# Altium footprint library CONN_TBLOCK_5P08.PcbLib: 72 footprints (part 1 of 5)
Each footprint in its own frame and in the unit in brackets; x right, y up, seen from the top. Pads: shape width x height; smd on the part's side, far side on the other; paste and mask are expansions set on the pad; w line width, h text height; cw(c..) or ccw(c..) is an arc to the next point about the centre after c.
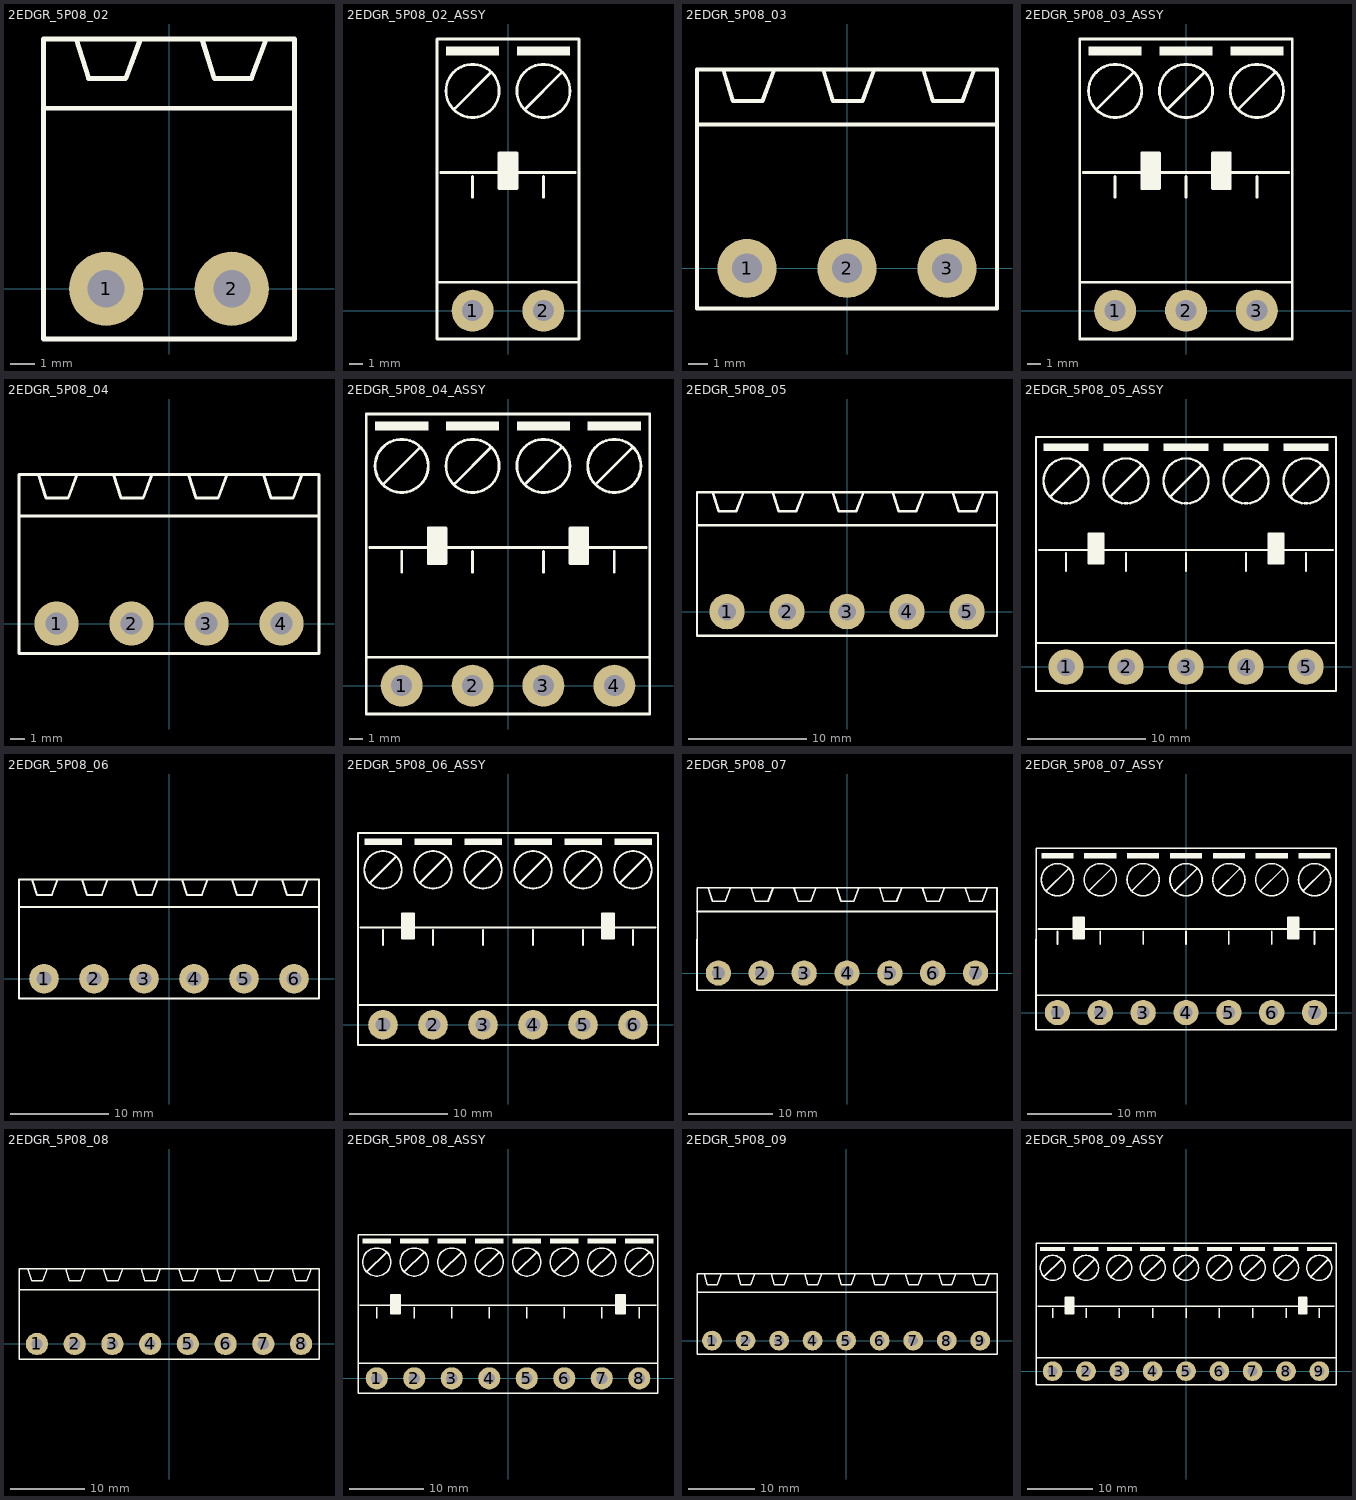
[diagram p0: the footprints below, top view; thin cyan lines are the x and y axes]

## 2EDGR_5P08_02 [mm] "Terminal Plug, pitch 5.08mm, PHOENIX MSTB 2,5/ x-G-5,08"
pads (2):
  round 3 hole 1.5: 1(-2.54,0) 2(2.54,0)
Top Overlay:
  lines w0.2: -5.08,7.3 5.08,7.3 ; -3.75,10.1 -3.25,8.5 -1.75,8.5 -1.15,10.1 ; 1.33,10.1 1.83,8.5 3.33,8.5 3.93,10.1 ; -5.08,-2.032 5.08,-2.032 5.08,10.1 -5.08,10.1 -5.08,-2.032
3D body "PHOENIX_MSTB2.stp": height 8.7, standoff -3.4, extent -5,-2 5,10

## 2EDGR_5P08_02_ASSY [mm] "Terminal Plug, pitch 5.08mm, PHOENIX MSTB 2,5/ x-G-5,08"
pads (2):
  round 3 hole 1.5: 1(-2.54,0) 2(2.54,0)
Top Overlay:
  circle w0.2: c-2.54,15.748 r1.905
  circle w0.2: c2.54,15.748 r1.905
  region: -0.635,18.923 -4.445,18.923 -4.445,18.288 -0.635,18.288
  region: 4.445,18.923 0.635,18.923 0.635,18.288 4.445,18.288
  region: 0.635,11.303 -0.635,11.303 -0.635,8.763 0.635,8.763
  lines w0.2: -5.08,2.032 5.08,2.032 ; -4.826,9.906 4.826,9.906 ; -3.81,14.478 -1.27,17.018 ; -2.54,8.128 -2.54,9.618 ; 1.27,14.478 3.81,17.018 ; 2.54,8.128 2.54,9.618 ; -5.08,-2.032 -5.08,19.468 5.08,19.468 5.08,-2.032 -5.08,-2.032 ; -0.635,8.763 -0.635,11.303 0.635,11.303 0.635,8.763 -0.635,8.763
3D body "PHOENIX_MSTB2.stp": height 8.6, standoff -3.5, extent -5,-2 5,10
3D body "PHOENIX_MSTB2W.stp": height 15, standoff 0, extent -5,1 5,19.2

## 2EDGR_5P08_03 [mm] "Terminal Plug, pitch 5.08mm, PHOENIX MSTB 2,5/ x-G-5,08"
pads (3):
  round 3 hole 1.5: 1(-5.08,0) 2(0,0) 3(5.08,0)
Top Overlay:
  lines w0.2: -7.62,7.3 7.62,7.3 ; -6.29,10.1 -5.79,8.5 -4.29,8.5 -3.69,10.1 ; -1.21,10.1 -0.71,8.5 0.79,8.5 1.39,10.1 ; 3.87,10.1 4.37,8.5 5.87,8.5 6.47,10.1 ; -7.62,-2.032 -7.62,10.1 7.62,10.1 7.62,-2.032 -7.62,-2.032
3D body "PHOENIX_MSTB3.stp": height 8.6, standoff -3.5, extent -7.5,-2 7.5,10

## 2EDGR_5P08_03_ASSY [mm] "Terminal Plug, pitch 5.08mm, PHOENIX MSTB 2,5/ x-G-5,08"
pads (3):
  round 3 hole 1.5: 1(-5.08,0) 2(0,0) 3(5.08,0)
Top Overlay:
  circle w0.2: c-5.08,15.748 r1.905
  circle w0.2: c0,15.748 r1.905
  circle w0.2: c5.08,15.748 r1.905
  region: -3.175,18.923 -6.985,18.923 -6.985,18.288 -3.175,18.288
  region: 1.905,18.923 -1.905,18.923 -1.905,18.288 1.905,18.288
  region: 6.985,18.923 3.175,18.923 3.175,18.288 6.985,18.288
  region: 3.175,11.303 1.905,11.303 1.905,8.763 3.175,8.763
  rectangle: -3.175,8.763 -1.905,11.303
  lines w0.2: -7.62,2.032 7.62,2.032 ; -7.366,9.906 7.366,9.906 ; -6.35,14.478 -3.81,17.018 ; -5.08,8.128 -5.08,9.618 ; -1.27,14.478 1.27,17.018 ; 0,8.128 0,9.618 ; 3.81,14.478 6.35,17.018 ; 5.08,8.128 5.08,9.618 ; -7.62,-2.032 7.62,-2.032 7.62,19.468 -7.62,19.468 -7.62,-2.032 ; -3.175,8.763 -3.175,11.303 -1.905,11.303 -1.905,8.763 -3.175,8.763 ; 1.905,8.763 1.905,11.303 3.175,11.303 3.175,8.763 1.905,8.763
3D body "PHOENIX_MSTB3.stp": height 8.6, standoff -3.5, extent -7.5,-2 7.5,10
3D body "PHOENIX_MSTB3w.stp": height 15, standoff 0, extent -7.5,1 7.5,19.2

## 2EDGR_5P08_04 [mm] "Terminal Plug, pitch 5.08mm, PHOENIX MSTB 2,5/ x-G-5,08"
pads (4):
  round 3 hole 1.5: 1(-7.62,0) 2(-2.54,0) 3(2.54,0) 4(7.62,0)
Top Overlay:
  lines w0.2: -10.16,7.3 10.16,7.3 ; -8.83,10.1 -8.33,8.5 -6.83,8.5 -6.23,10.1 ; -3.75,10.1 -3.25,8.5 -1.75,8.5 -1.15,10.1 ; 1.33,10.1 1.83,8.5 3.33,8.5 3.93,10.1 ; 6.41,10.1 6.91,8.5 8.41,8.5 9.01,10.1 ; -10.16,-2.032 10.16,-2.032 10.16,10.1 -10.16,10.1 -10.16,-2.032
3D body "PHOENIX_MSTB4.stp": height 8.6, standoff -3.5, extent -10,-2 10,10

## 2EDGR_5P08_04_ASSY [mm] "Terminal Plug, pitch 5.08mm, PHOENIX MSTB 2,5/ x-G-5,08"
pads (4):
  round 3 hole 1.5: 1(-7.62,0) 2(-2.54,0) 3(2.54,0) 4(7.62,0)
Top Overlay:
  circle w0.2: c-7.62,15.748 r1.905
  circle w0.2: c-2.54,15.748 r1.905
  circle w0.2: c2.54,15.748 r1.905
  circle w0.2: c7.62,15.748 r1.905
  region: -0.635,18.923 -4.445,18.923 -4.445,18.288 -0.635,18.288
  region: 4.445,18.923 0.635,18.923 0.635,18.288 4.445,18.288
  region: 9.525,18.923 5.715,18.923 5.715,18.288 9.525,18.288
  region: -5.715,18.923 -9.525,18.923 -9.525,18.288 -5.715,18.288
  region: 5.715,11.303 4.445,11.303 4.445,8.763 5.715,8.763
  rectangle: -5.715,8.763 -4.445,11.303
  lines w0.2: -10.16,2.032 10.16,2.032 ; -9.906,9.906 9.906,9.906 ; -8.89,14.478 -6.35,17.018 ; -7.62,8.128 -7.62,9.618 ; -3.81,14.478 -1.27,17.018 ; -2.54,8.128 -2.54,9.618 ; 1.27,14.478 3.81,17.018 ; 2.54,8.128 2.54,9.618 ; 6.35,14.478 8.89,17.018 ; 7.62,8.128 7.62,9.618 ; -10.16,-2.032 10.16,-2.032 10.16,19.468 -10.16,19.468 -10.16,-2.032 ; -5.715,8.763 -5.715,11.303 -4.445,11.303 -4.445,8.763 -5.715,8.763 ; 4.445,8.763 4.445,11.303 5.715,11.303 5.715,8.763 4.445,8.763
3D body "PHOENIX_MSTB4w.stp": height 15, standoff 0, extent -10,1 10,19.2
3D body "PHOENIX_MSTB4.stp": height 8.6, standoff -3.5, extent -10,-2 10,10

## 2EDGR_5P08_05 [mm] "Terminal Plug, pitch 5.08mm, PHOENIX MSTB 2,5/ x-G-5,08"
pads (5):
  round 3 hole 1.5: 1(-10.16,0) 2(-5.08,0) 3(0,0) 4(5.08,0) 5(10.16,0)
Top Overlay:
  lines w0.2: -12.7,7.3 12.7,7.3 ; -11.37,10.1 -10.87,8.5 -9.37,8.5 -8.77,10.1 ; -6.29,10.1 -5.79,8.5 -4.29,8.5 -3.69,10.1 ; -1.21,10.1 -0.71,8.5 0.79,8.5 1.39,10.1 ; 3.87,10.1 4.37,8.5 5.87,8.5 6.47,10.1 ; 8.95,10.1 9.45,8.5 10.95,8.5 11.55,10.1 ; -12.7,-2.032 12.7,-2.032 12.7,10.1 -12.7,10.1 -12.7,-2.032
3D body "PHOENIX_MSTB5.stp": height 8.6, standoff -3.5, extent -12.5,-2 12.5,10

## 2EDGR_5P08_05_ASSY [mm] "Terminal Plug, pitch 5.08mm, PHOENIX MSTB 2,5/ x-G-5,08"
pads (5):
  round 3 hole 1.5: 1(-10.16,0) 2(-5.08,0) 3(0,0) 4(5.08,0) 5(10.16,0)
Top Overlay:
  circle w0.2: c-10.16,15.748 r1.905
  circle w0.2: c-5.08,15.748 r1.905
  circle w0.2: c0,15.748 r1.905
  circle w0.2: c5.08,15.748 r1.905
  circle w0.2: c10.16,15.748 r1.905
  region: 1.905,18.923 -1.905,18.923 -1.905,18.288 1.905,18.288
  region: 6.985,18.923 3.175,18.923 3.175,18.288 6.985,18.288
  region: 12.065,18.923 8.255,18.923 8.255,18.288 12.065,18.288
  region: -8.255,18.923 -12.065,18.923 -12.065,18.288 -8.255,18.288
  region: -3.175,18.923 -6.985,18.923 -6.985,18.288 -3.175,18.288
  region: 8.255,11.303 6.985,11.303 6.985,8.763 8.255,8.763
  rectangle: -8.255,8.763 -6.985,11.303
  lines w0.2: -12.7,2.032 12.7,2.032 ; -12.446,9.906 12.446,9.906 ; -11.43,14.478 -8.89,17.018 ; -10.16,8.128 -10.16,9.618 ; -6.35,14.478 -3.81,17.018 ; -5.08,8.128 -5.08,9.618 ; -1.27,14.478 1.27,17.018 ; 0,8.128 0,9.618 ; 3.81,14.478 6.35,17.018 ; 5.08,8.128 5.08,9.618 ; 8.89,14.478 11.43,17.018 ; 10.16,8.128 10.16,9.618 ; -12.7,-2.032 12.7,-2.032 12.7,19.468 -12.7,19.468 -12.7,-2.032 ; -8.255,8.763 -8.255,11.303 -6.985,11.303 -6.985,8.763 -8.255,8.763 ; 6.985,8.763 6.985,11.303 8.255,11.303 8.255,8.763 6.985,8.763
3D body "PHOENIX_MSTB5w.stp": height 14.47, standoff -0.53, extent -12.7,1 12.7,19.2
3D body "PHOENIX_MSTB5.stp": height 8.6, standoff -3.5, extent -12.5,-2 12.5,10

## 2EDGR_5P08_06 [mm] "Terminal Plug, pitch 5.08mm, PHOENIX MSTB 2,5/ x-G-5,08"
pads (6):
  round 3 hole 1.5: 1(-12.7,0) 2(-7.62,0) 3(-2.54,0) 4(2.54,0) 5(7.62,0) 6(12.7,0)
Top Overlay:
  lines w0.2: -15.24,7.3 15.24,7.3 ; -13.91,10.1 -13.41,8.5 -11.91,8.5 -11.31,10.1 ; -8.83,10.1 -8.33,8.5 -6.83,8.5 -6.23,10.1 ; -3.75,10.1 -3.25,8.5 -1.75,8.5 -1.15,10.1 ; 1.33,10.1 1.83,8.5 3.33,8.5 3.93,10.1 ; 6.41,10.1 6.91,8.5 8.41,8.5 9.01,10.1 ; 11.49,10.1 11.99,8.5 13.49,8.5 14.09,10.1 ; -15.24,-2.032 -15.24,10.1 15.24,10.1 15.24,-2.032 -15.24,-2.032
3D body "PHOENIX_MSTB6.stp": height 8.6, standoff -3.5, extent -15,-2 15,10

## 2EDGR_5P08_06_ASSY [mm] "Terminal Plug, pitch 5.08mm, PHOENIX MSTB 2,5/ x-G-5,08"
pads (6):
  round 3 hole 1.5: 1(-12.7,0) 2(-7.62,0) 3(-2.54,0) 4(2.54,0) 5(7.62,0) 6(12.7,0)
Top Overlay:
  circle w0.2: c-12.7,15.748 r1.905
  circle w0.2: c-7.62,15.748 r1.905
  circle w0.2: c-2.54,15.748 r1.905
  circle w0.2: c2.54,15.748 r1.905
  circle w0.2: c7.62,15.748 r1.905
  circle w0.2: c12.7,15.748 r1.905
  region: 4.445,18.923 0.635,18.923 0.635,18.288 4.445,18.288
  region: 9.525,18.923 5.715,18.923 5.715,18.288 9.525,18.288
  region: 14.605,18.923 10.795,18.923 10.795,18.288 14.605,18.288
  region: -5.715,18.923 -9.525,18.923 -9.525,18.288 -5.715,18.288
  region: -10.795,18.923 -14.605,18.923 -14.605,18.288 -10.795,18.288
  region: -0.635,18.923 -4.445,18.923 -4.445,18.288 -0.635,18.288
  region: 10.795,11.303 9.525,11.303 9.525,8.763 10.795,8.763
  rectangle: -10.795,8.763 -9.525,11.303
  lines w0.2: -15.24,2.032 15.24,2.032 ; -15.24,19.468 -15.24,-2.032 15.24,-2.032 15.24,19.468 -15.21,19.468 ; -14.986,9.906 14.986,9.906 ; -13.97,14.478 -11.43,17.018 ; -12.7,8.128 -12.7,9.618 ; -8.89,14.478 -6.35,17.018 ; -7.62,8.128 -7.62,9.618 ; -3.81,14.478 -1.27,17.018 ; -2.54,8.128 -2.54,9.618 ; 1.27,14.478 3.81,17.018 ; 2.54,8.128 2.54,9.618 ; 6.35,14.478 8.89,17.018 ; 7.62,8.128 7.62,9.618 ; 11.43,14.478 13.97,17.018 ; 12.7,8.128 12.7,9.618 ; -10.795,8.763 -10.795,11.303 -9.525,11.303 -9.525,8.763 -10.795,8.763 ; 9.525,8.763 9.525,11.303 10.795,11.303 10.795,8.763 9.525,8.763
3D body "PHOENIX_MSTB6.stp": height 8.6, standoff -3.5, extent -15,-2 15,10
3D body "PHOENIX_MSTB6W.stp": height 15.07, standoff 0.07, extent -15.18,1 15.3,19.2

## 2EDGR_5P08_07 [mm] "Terminal Plug, pitch 5.08mm, PHOENIX MSTB 2,5/ x-G-5,08"
pads (7):
  round 3 hole 1.5: 1(-15.24,0) 2(-10.16,0) 3(-5.08,0) 4(0,0) 5(5.08,0) 6(10.16,0) 7(15.24,0)
Top Overlay:
  lines w0.2: -17.78,7.3 17.78,7.3 ; -16.45,10.1 -15.95,8.5 -14.45,8.5 -13.85,10.1 ; -11.37,10.1 -10.87,8.5 -9.37,8.5 -8.77,10.1 ; -6.29,10.1 -5.79,8.5 -4.29,8.5 -3.69,10.1 ; -1.21,10.1 -0.71,8.5 0.79,8.5 1.39,10.1 ; 3.87,10.1 4.37,8.5 5.87,8.5 6.47,10.1 ; 8.95,10.1 9.45,8.5 10.95,8.5 11.55,10.1 ; 14.03,10.1 14.53,8.5 16.03,8.5 16.63,10.1 ; -17.78,-2.032 -17.763,10.1 17.78,10.1 17.78,-2.032 -17.78,-2.032
3D body "PHOENIX_MSTB6.stp": height 8.6, standoff -3.5, extent -17.5,-2 17.5,10

## 2EDGR_5P08_07_ASSY [mm] "Terminal Plug, pitch 5.08mm, PHOENIX MSTB 2,5/ x-G-5,08"
pads (7):
  round 3 hole 1.5: 1(-15.24,0) 2(-10.16,0) 3(-5.08,0) 4(0,0) 5(5.08,0) 6(10.16,0) 7(15.24,0)
Top Overlay:
  circle w0.2: c15.24,15.748 r1.905
  circle w0.2: c10.16,15.748 r1.905
  circle w0.2: c5.08,15.748 r1.905
  circle w0.2: c0,15.748 r1.905
  circle w0.2: c-5.08,15.748 r1.905
  circle w0.2: c-10.16,15.748 r1.905
  circle w0.2: c-15.24,15.748 r1.905
  region: 1.905,18.923 -1.905,18.923 -1.905,18.288 1.905,18.288
  region: -13.335,18.923 -17.145,18.923 -17.145,18.288 -13.335,18.288
  region: -8.255,18.923 -12.065,18.923 -12.065,18.288 -8.255,18.288
  region: -3.175,18.923 -6.985,18.923 -6.985,18.288 -3.175,18.288
  region: 17.145,18.923 13.335,18.923 13.335,18.288 17.145,18.288
  rectangle: -13.335,8.763 -12.065,11.303
  region: 12.065,18.923 8.255,18.923 8.255,18.288 12.065,18.288
  region: 6.985,18.923 3.175,18.923 3.175,18.288 6.985,18.288
  region: 13.335,11.303 12.065,11.303 12.065,8.763 13.335,8.763
  lines w0.2: -17.78,2.032 17.78,2.032 ; -17.526,9.906 17.526,9.906 ; -16.51,14.478 -13.97,17.018 ; -15.24,8.128 -15.24,9.618 ; -11.43,14.478 -8.89,17.018 ; -10.16,8.128 -10.16,9.618 ; -6.35,14.478 -3.81,17.018 ; -5.08,8.128 -5.08,9.618 ; -1.27,14.478 1.27,17.018 ; 0,8.128 0,9.618 ; 3.81,14.478 6.35,17.018 ; 5.08,8.128 5.08,9.618 ; 8.89,14.478 11.43,17.018 ; 10.16,8.128 10.16,9.618 ; 13.97,14.478 16.51,17.018 ; 15.24,8.128 15.24,9.618 ; -17.78,-2.032 -17.75,19.468 17.78,19.468 17.78,-2.032 -17.78,-2.032 ; -13.335,8.763 -13.335,11.303 -12.065,11.303 -12.065,8.763 -13.335,8.763 ; 12.065,8.763 13.335,8.763 13.335,11.303 12.065,11.303 12.065,8.763
3D body "PHOENIX_MSTB7W.stp": height 15.07, standoff 0.07, extent -17.86,1 17.7,19.2
3D body "PHOENIX_MSTB6.stp": height 8.6, standoff -3.5, extent -17.5,-2 17.5,10

## 2EDGR_5P08_08 [mm] "Terminal Plug, pitch 5.08mm, PHOENIX MSTB 2,5/ x-G-5,08"
pads (8):
  round 3 hole 1.5: 1(-17.78,0) 2(-12.7,0) 3(-7.62,0) 4(-2.54,0) 5(2.54,0) 6(7.62,0) 7(12.7,0) 8(17.78,0)
Top Overlay:
  lines w0.2: -20.2,7.3 20.2,7.3 ; -18.99,10.1 -18.49,8.5 -16.99,8.5 -16.39,10.1 ; -13.91,10.1 -13.41,8.5 -11.91,8.5 -11.31,10.1 ; -8.83,10.1 -8.33,8.5 -6.83,8.5 -6.23,10.1 ; -3.75,10.1 -3.25,8.5 -1.75,8.5 -1.15,10.1 ; 1.33,10.1 1.83,8.5 3.33,8.5 3.93,10.1 ; 6.41,10.1 6.91,8.5 8.41,8.5 9.01,10.1 ; 11.49,10.1 11.99,8.5 13.49,8.5 14.09,10.1 ; 16.57,10.1 17.07,8.5 18.57,8.5 19.17,10.1 ; -20.2,-2.032 -20.2,10.1 20.2,10.1 20.2,-2.032 -20.2,-2.032
3D body "PHOENIX_MSTB8.stp": height 8.6, standoff -3.5, extent -20,-2 20,10

## 2EDGR_5P08_08_ASSY [mm] "Terminal Plug, pitch 5.08mm, PHOENIX MSTB 2,5/ x-G-5,08"
pads (8):
  round 3 hole 1.5: 1(-17.78,0) 2(-12.7,0) 3(-7.62,0) 4(-2.54,0) 5(2.54,0) 6(7.62,0) 7(12.7,0) 8(17.78,0)
Top Overlay:
  circle w0.2: c-17.78,15.748 r1.905
  circle w0.2: c-12.7,15.748 r1.905
  circle w0.2: c-7.62,15.748 r1.905
  circle w0.2: c-2.54,15.748 r1.905
  circle w0.2: c2.54,15.748 r1.905
  circle w0.2: c7.62,15.748 r1.905
  circle w0.2: c12.7,15.748 r1.905
  circle w0.2: c17.78,15.748 r1.905
  region: 9.525,18.923 5.715,18.923 5.715,18.288 9.525,18.288
  region: 14.605,18.923 10.795,18.923 10.795,18.288 14.605,18.288
  region: 19.685,18.923 15.875,18.923 15.875,18.288 19.685,18.288
  region: -0.635,18.923 -4.445,18.923 -4.445,18.288 -0.635,18.288
  region: -5.715,18.923 -9.525,18.923 -9.525,18.288 -5.715,18.288
  region: -10.795,18.923 -14.605,18.923 -14.605,18.288 -10.795,18.288
  region: -15.875,18.923 -19.685,18.923 -19.685,18.288 -15.875,18.288
  region: 4.445,18.923 0.635,18.923 0.635,18.288 4.445,18.288
  region: -14.605,11.303 -15.875,11.303 -15.875,8.763 -14.605,8.763
  region: 15.875,11.303 14.605,11.303 14.605,8.763 15.875,8.763
  lines w0.2: -20.32,2.032 20.32,2.032 ; -20.066,9.906 20.066,9.906 ; -19.05,14.478 -16.51,17.018 ; -17.78,8.128 -17.78,9.618 ; -13.97,14.478 -11.43,17.018 ; -12.7,8.128 -12.7,9.618 ; -8.89,14.478 -6.35,17.018 ; -7.62,8.128 -7.62,9.618 ; -3.81,14.478 -1.27,17.018 ; -2.54,8.128 -2.54,9.618 ; 1.27,14.478 3.81,17.018 ; 2.54,8.128 2.54,9.618 ; 6.35,14.478 8.89,17.018 ; 7.62,8.128 7.62,9.618 ; 11.43,14.478 13.97,17.018 ; 12.7,8.128 12.7,9.618 ; 16.51,14.478 19.05,17.018 ; 17.78,8.128 17.78,9.618 ; -20.32,-2.032 -20.32,19.468 20.32,19.468 20.32,-2.032 -20.32,-2.032 ; -15.875,8.763 -14.605,8.763 -14.605,11.303 -15.875,11.303 -15.875,8.763 ; 14.605,8.763 14.605,11.303 15.875,11.303 15.875,8.763 14.605,8.763
3D body "PHOENIX_MSTB8W.stp": height 15.07, standoff 0.07, extent -20.34,1 20.3,19.2
3D body "PHOENIX_MSTB8.stp": height 8.6, standoff -3.5, extent -20,-2 20,10

## 2EDGR_5P08_09 [mm] "Terminal Plug, pitch 5.08mm, PHOENIX MSTB 2,5/ x-G-5,08"
pads (9):
  round 3 hole 1.5: 1(-20.32,0) 2(-15.24,0) 3(-10.16,0) 4(-5.08,0) 5(0,0) 6(5.08,0) 7(10.16,0) 8(15.24,0) 9(20.32,0)
Top Overlay:
  lines w0.2: -22.6,7.3 22.86,7.3 ; -21.53,10.1 -21.03,8.5 -19.53,8.5 -18.93,10.1 ; -16.45,10.1 -15.95,8.5 -14.45,8.5 -13.85,10.1 ; -11.37,10.1 -10.87,8.5 -9.37,8.5 -8.77,10.1 ; -6.29,10.1 -5.79,8.5 -4.29,8.5 -3.69,10.1 ; -1.21,10.1 -0.71,8.5 0.79,8.5 1.39,10.1 ; 3.87,10.1 4.37,8.5 5.87,8.5 6.47,10.1 ; 8.95,10.1 9.45,8.5 10.95,8.5 11.55,10.1 ; 14.03,10.1 14.53,8.5 16.03,8.5 16.63,10.1 ; 19.11,10.1 19.61,8.5 21.11,8.5 21.71,10.1 ; -22.6,-2.032 -22.6,10.1 22.86,10.1 22.86,-2.032 -22.6,-2.032
3D body "PHOENIX_MSTB9.stp": height 8.6, standoff -3.5, extent -22.5,-2 22.5,10

## 2EDGR_5P08_09_ASSY [mm] "Terminal Plug, pitch 5.08mm, PHOENIX MSTB 2,5/ x-G-5,08"
pads (9):
  round 3 hole 1.5: 1(-20.32,0) 2(-15.24,0) 3(-10.16,0) 4(-5.08,0) 5(0,0) 6(5.08,0) 7(10.16,0) 8(15.24,0) 9(20.32,0)
Top Overlay:
  circle w0.2: c-20.32,15.748 r1.905
  circle w0.2: c20.32,15.748 r1.905
  circle w0.2: c15.24,15.748 r1.905
  circle w0.2: c10.16,15.748 r1.905
  circle w0.2: c5.08,15.748 r1.905
  circle w0.2: c0,15.748 r1.905
  circle w0.2: c-5.08,15.748 r1.905
  circle w0.2: c-10.16,15.748 r1.905
  circle w0.2: c-15.24,15.748 r1.905
  region: -18.415,18.923 -22.225,18.923 -22.225,18.288 -18.415,18.288
  region: -17.145,11.303 -18.415,11.303 -18.415,8.763 -17.145,8.763
  region: 18.415,11.303 17.145,11.303 17.145,8.763 18.415,8.763
  region: 6.985,18.923 3.175,18.923 3.175,18.288 6.985,18.288
  region: -13.335,18.923 -17.145,18.923 -17.145,18.288 -13.335,18.288
  region: -8.255,18.923 -12.065,18.923 -12.065,18.288 -8.255,18.288
  region: -3.175,18.923 -6.985,18.923 -6.985,18.288 -3.175,18.288
  region: 1.905,18.923 -1.905,18.923 -1.905,18.288 1.905,18.288
  region: 22.225,18.923 18.415,18.923 18.415,18.288 22.225,18.288
  region: 17.145,18.923 13.335,18.923 13.335,18.288 17.145,18.288
  region: 12.065,18.923 8.255,18.923 8.255,18.288 12.065,18.288
  lines w0.2: -22.86,2.032 22.86,2.032 ; -22.606,9.906 22.606,9.906 ; -21.59,14.478 -19.05,17.018 ; -20.32,8.128 -20.32,9.618 ; -16.51,14.478 -13.97,17.018 ; -15.24,8.128 -15.24,9.618 ; -11.43,14.478 -8.89,17.018 ; -10.16,8.128 -10.16,9.618 ; -6.35,14.478 -3.81,17.018 ; -5.08,8.128 -5.08,9.618 ; -1.27,14.478 1.27,17.018 ; 0,8.128 0,9.618 ; 3.81,14.478 6.35,17.018 ; 5.08,8.128 5.08,9.618 ; 8.89,14.478 11.43,17.018 ; 10.16,8.128 10.16,9.618 ; 13.97,14.478 16.51,17.018 ; 15.24,8.128 15.24,9.618 ; 19.05,14.478 21.59,17.018 ; 20.32,8.128 20.32,9.618 ; -22.86,-2.032 -22.86,19.468 22.86,19.468 22.86,-2.032 -22.86,-2.032 ; -18.415,8.763 -18.415,11.303 -17.145,11.303 -17.145,8.763 -18.415,8.763 ; 17.145,8.763 18.415,8.763 18.415,11.303 17.145,11.303 17.145,8.763
3D body "PHOENIX_MSTB9W.stp": height 15.07, standoff 0.07, extent -22.82,1 22.9,19.2
3D body "PHOENIX_MSTB9.stp": height 8.6, standoff -3.5, extent -22.5,-2 22.5,10